# EAGLE library part MICRO-USB-5P (library Connector)
When you use the footprint ,place notice 46 (layer)milling ,there is some important information.
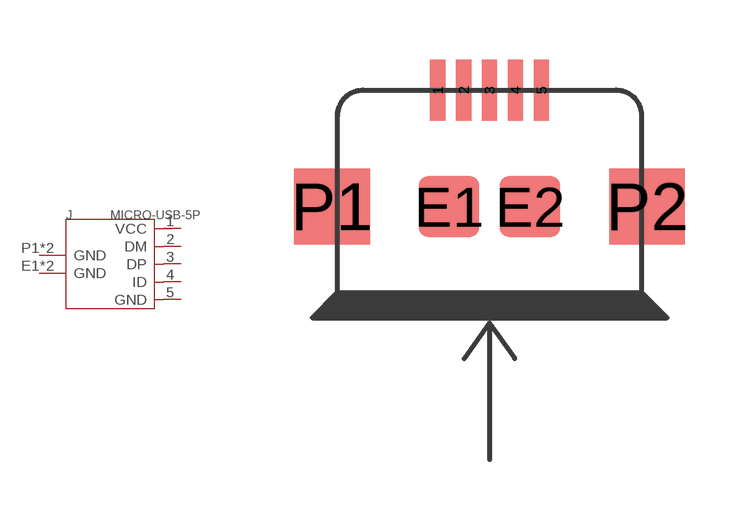
[diagram p15: symbol with the pads of B-SMD-5P; footprint B-SMD-5P]

Designator prefix J

## MICRO-USB-5P-340015001  [B-SMD-5P]
1  VCC
2  DM
3  DP
4  ID
5  GND
E1  GND
E2  GND
P1  GND
P2  GND

## Footprint B-SMD-5P (pad centres in mm)
smd 0.38 x 1.52: 1 -1.3,2.54; 2 -0.65,2.54; 3 0,2.54; 4 0.65,2.54; 5 1.3,2.54
smd 1.524 x 1.524: E1 -1.016,-0.381; E2 1.016,-0.381
smd 1.9 x 1.9: P1 -3.95,-0.381; P2 3.95,-0.381